# Altium footprint library PCB - DIODES - DO214AB SMC.PCBLIB: 1 footprints
Each footprint in its own frame and in the unit in brackets; x right, y up, seen from the top. Pads: shape width x height; smd on the part's side, far side on the other; paste and mask are expansions set on the pad; w line width, h text height; cw(c..) or ccw(c..) is an arc to the next point about the centre after c.
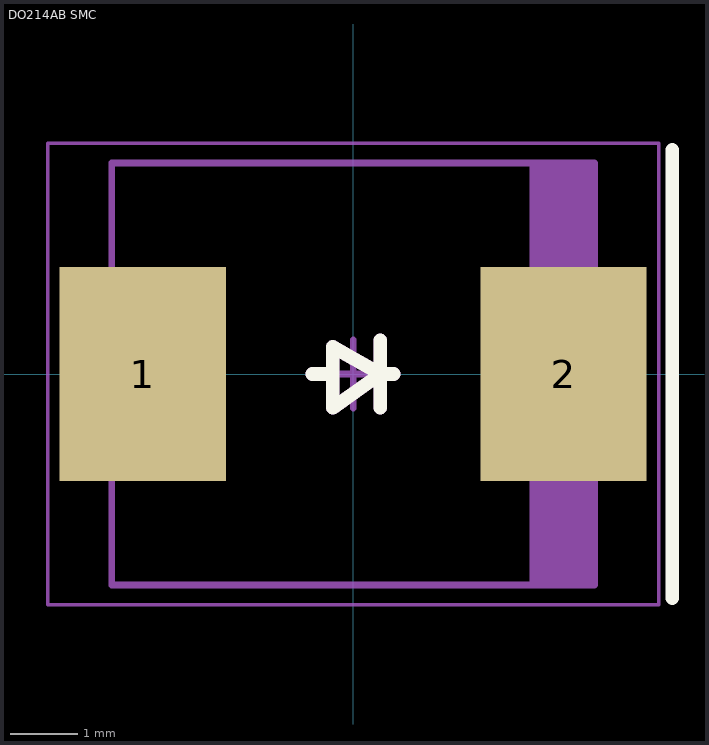
[diagram p0: the footprint, top view; thin cyan lines are the x and y axes]

## DO214AB SMC [mm] "Molded Diode, 2-Leads, Body 6.85x5.90mm, IPC Medium Density"
height 2.62
pads (2):
  rect 2.45x3.15 smd: 1(-3.1,0) 2(3.1,0)
Top Overlay:
  lines w0.2: -0.6,0 -0.3,0 ; 0.4,-0.5 0.4,0.5 ; 0.6,0 0.4,0 ; 4.7,-3.3 4.7,0.5 4.7,3.3 ; 0.4,0 -0.3,-0.5 -0.3,0.4 0.4,0
Top Assembly:
  rectangle: 2.599,-3.11 3.555,3.11
  lines w0.1: -3.555,-3.11 3.555,-3.11 3.555,3.11 -3.555,3.11 -3.555,-3.11
  lines w0.2: -0.6,0 -0.3,0 ; 0.4,-0.5 0.4,0.5 ; 0.6,0 0.4,0 ; 0.4,0 -0.3,-0.5 -0.3,0.4 0.4,0
  text ".Designator" at -3.425,-2.144 h1.52
Top Component Center:
  lines w0.1: -0.5,0 0.5,0 ; 0,-0.5 0,0.5
Top Courtyard:
  lines w0.05: -4.5,-3.4 4.5,-3.4 4.5,3.4 -4.5,3.4 -4.5,-3.4
3D body "SMC.STEP": height 2.6, standoff 0, extent -3.97,-2.952 3.97,2.952